# Altium footprint library Conn.Harting.PcbLib: 12 footprints
Each footprint in its own frame and in the unit in brackets; x right, y up, seen from the top. Pads: shape width x height; smd on the part's side, far side on the other; paste and mask are expansions set on the pad; w line width, h text height; cw(c..) or ccw(c..) is an arc to the next point about the centre after c.
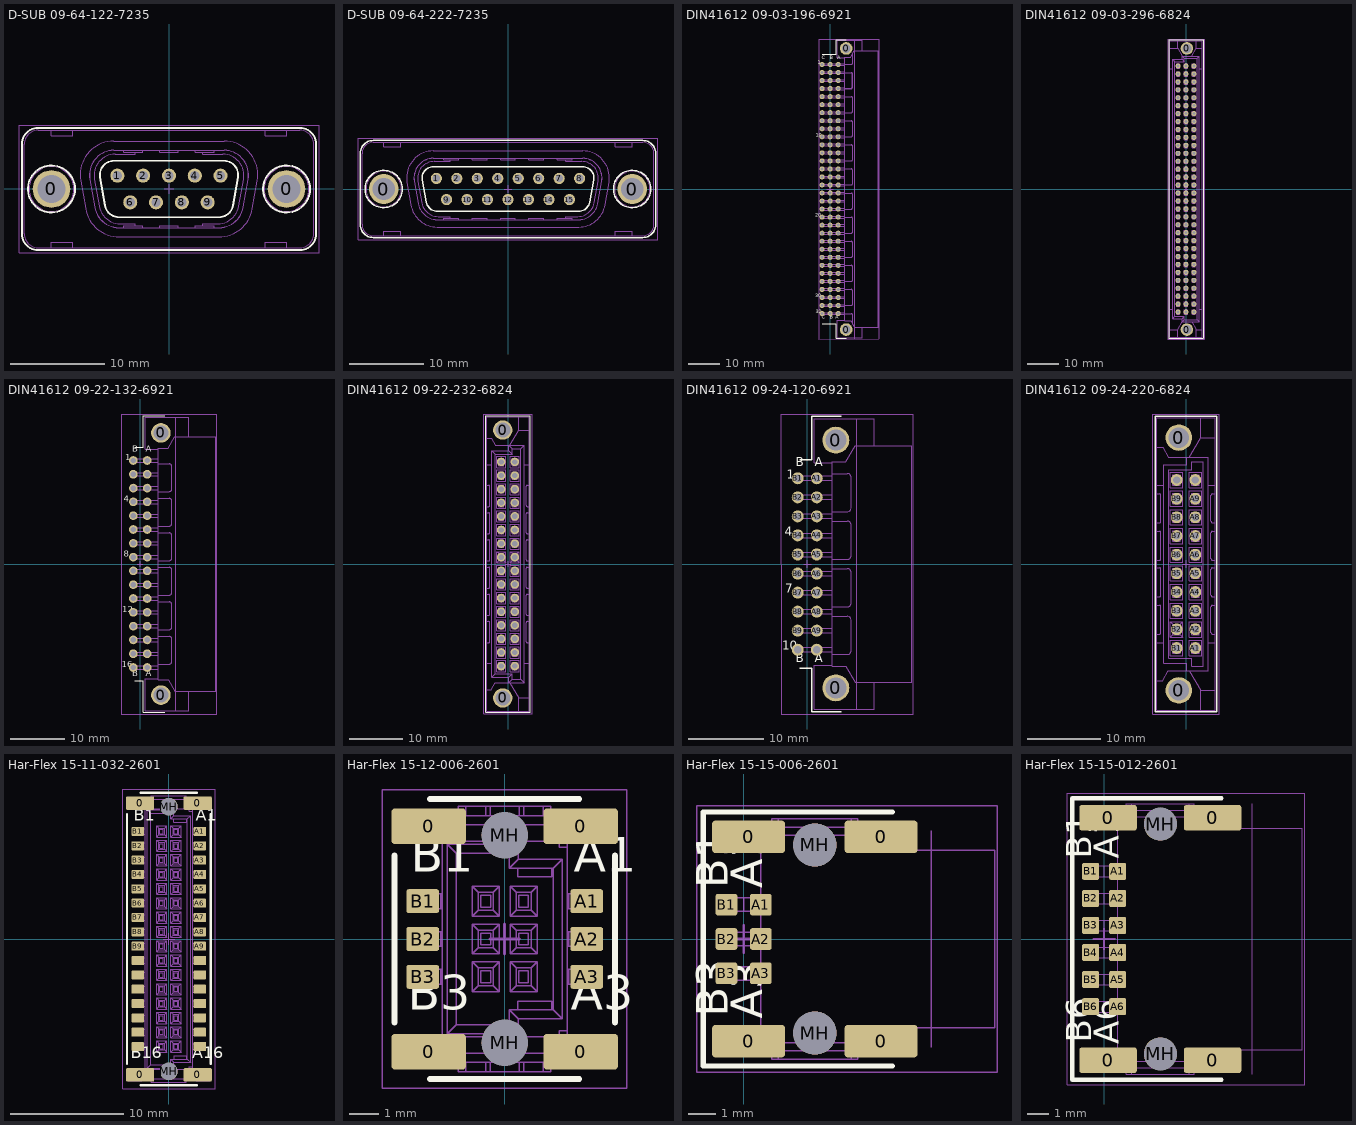
[diagram p0: the footprints below, top view; thin cyan lines are the x and y axes]

## D-SUB 09-64-122-7235 [mm] "Harting D-SUB Connector, 9-Lead,  5.6mm Standoff, 10.3mm PC Tail"
height 17.2
pads (11):
  round 4 hole 3: 0(-12.5,0) 0(12.5,0)
  round 1.5 hole 1: 1(-5.49,1.42) 2(-2.75,1.42) 3(0,1.42) 4(2.74,1.42) 5(5.48,1.42) 6(-4.12,-1.42) 7(-1.38,-1.42) 8(1.37,-1.42) 9(4.11,-1.42)
Top Overlay:
  circle w0.2: c-12.5,0 r2.502
  circle w0.2: c12.5,0 r2.502
  lines w0.2: -15.65,-4.75 ccw(c-13.9,-4.75) -13.9,-6.5 13.9,-6.5 ccw(c13.9,-4.75) 15.65,-4.75 15.65,4.75 ccw(c13.9,4.75) 13.9,6.5 -13.9,6.5 ccw(c-13.9,4.75) -15.65,4.75 -15.65,-4.75 ; -7.327,1.24 cw(c-5.85,1.5) -5.85,3 5.85,3 cw(c5.85,1.5) 7.327,1.24 6.798,-1.76 cw(c5.321,-1.5) 5.321,-3 -5.321,-3 cw(c-5.321,-1.5) -6.798,-1.76 -7.327,1.24
Bottom Overlay:
  region: -6.44,1.42 -7.306,0.92 -7.306,1.92
Mechanical 1:
  circle w0.05: c4.11,-1.42 r0.5
  circle w0.05: c2.74,1.42 r0.5
  circle w0.05: c0,1.42 r0.5
  circle w0.05: c-2.74,1.42 r0.5
  circle w0.05: c-4.11,-1.42 r0.5
  circle w0.05: c1.37,-1.42 r0.5
  circle w0.05: c-1.37,-1.42 r0.5
  circle w0.05: c5.49,1.42 r0.5
  circle w0.05: c-5.49,1.42 r0.5
  circle w0.05: c12.5,0 r2.375
  circle w0.05: c-12.5,0 r2.375
  circle w0.05: c-12.5,0 r1.7
  circle w0.05: c12.5,0 r1.7
  circle w0.05: c12.5,0 r1.08
  circle w0.05: c-12.5,0 r1.08
  lines w0.05: -13.469,-0.404 -13.066,0 -13.469,0.404 ; -12.904,-0.969 -12.5,-0.566 -12.096,-0.969 ; -12.904,0.969 -12.5,0.566 -12.096,0.969 ; -12.505,-6.24 -10.21,-6.24 ; -12.505,6.24 -10.21,6.24 ; -11.531,-0.404 -11.934,0 -11.531,0.404 ; -4.8,-4.1 -4.8,-3.892 -2.8,-3.892 -2.8,-4.1 ; -4.8,4.1 -4.8,3.892 -2.8,3.892 -2.8,4.1 ; -3.565,-3.892 -3.565,-3.697 -5.181,-3.697 cw(c-5.181,-1.44) -7.401,-1.851 -7.934,1.029 cw(c-5.715,1.44) -5.715,3.697 -3.565,3.697 -3.565,3.892 ; -1,-4.1 -1,-3.892 1,-3.892 1,-4.1 ; -1,4.1 -1,3.892 1,3.892 1,4.1 ; 2.8,-4.1 2.8,-3.892 4.8,-3.892 4.8,-4.1 ; 2.8,4.1 2.8,3.892 4.8,3.892 4.8,4.1 ; 3.565,-3.892 3.565,-3.697 5.181,-3.697 ccw(c5.181,-1.44) 7.401,-1.851 7.934,1.029 ccw(c5.715,1.44) 5.715,3.697 3.565,3.697 3.565,3.892 ; 10.21,-6.24 12.505,-6.24 ; 10.21,6.24 12.505,6.24 ; 11.531,-0.404 11.934,0 11.531,0.404 ; 12.096,-0.969 12.5,-0.566 12.904,-0.969 ; 12.096,0.969 12.5,0.566 12.904,0.969 ; 13.469,-0.404 13.066,0 13.469,0.404 ; -15.4,-4.75 ccw(c-13.9,-4.75) -13.9,-6.25 -12.505,-6.25 -12.505,-5.685 -10.21,-5.685 -10.21,-6.25 10.21,-6.25 10.21,-5.685 12.505,-5.685 12.505,-6.25 13.9,-6.25 ccw(c13.9,-4.75) 15.4,-4.75 15.4,4.75 ccw(c13.9,4.75) 13.9,6.25 12.505,6.25 12.505,5.685 10.21,5.685 10.21,6.25 -10.21,6.25 -10.21,5.685 -12.505,5.685 -12.505,6.25 -13.9,6.25 ccw(c-13.9,4.75) -15.4,4.75 -15.4,-4.75 ; -9.395,0.875 cw(c-5.85,1.5) -5.85,5.1 5.85,5.1 cw(c5.85,1.5) 9.395,0.875 8.866,-2.125 cw(c5.321,-1.5) 5.321,-5.1 -5.321,-5.1 cw(c-5.321,-1.5) -8.866,-2.125 -9.395,0.875 ; -8.421,1.047 cw(c-5.85,1.5) -5.85,4.11 5.85,4.11 cw(c5.85,1.5) 8.421,1.047 7.892,-1.953 cw(c5.321,-1.5) 5.321,-4.11 -5.321,-4.11 cw(c-5.321,-1.5) -7.892,-1.953 -8.421,1.047 ; -8.411,1.049 cw(c-5.85,1.5) -5.85,4.1 5.85,4.1 cw(c5.85,1.5) 8.411,1.049 7.882,-1.951 cw(c5.321,-1.5) 5.321,-4.1 -5.321,-4.1 cw(c-5.321,-1.5) -7.882,-1.951 -8.411,1.049
Mechanical 15:
  lines w0.05: -15.95,-6.8 -15.95,6.8 15.95,6.8 15.95,-6.8 -15.95,-6.8
  lines w0.1: -0.5,0 0.5,0 ; 0,-0.5 0,0.5
3D body "D-SUB 173109-0353.STEP": height 12.5, standoff -4.7, extent -15.4,-6.25 15.4,6.25

## D-SUB 09-64-222-7235 [mm] "Harting D-SUB Connector, 15-Lead,  5.6mm Standoff, 10.3mm PC Tail"
height 17.2
pads (17):
  round 4 hole 3: 0(-16.65,0) 0(16.65,0)
  round 1.5 hole 1: 1(-9.6,1.42) 2(-6.86,1.42) 3(-4.11,1.42) 4(-1.37,1.42) 5(1.37,1.42) 6(4.11,1.42) 7(6.86,1.42) 8(9.6,1.42) 9(-8.23,-1.42) 10(-5.49,-1.42) 11(-2.74,-1.42) 12(0,-1.42) 13(2.74,-1.42) 14(5.49,-1.42) 15(8.23,-1.42)
Top Overlay:
  circle w0.2: c16.65,0 r2.502
  circle w0.2: c-16.65,0 r2.502
  lines w0.2: -19.8,-4.75 ccw(c-18.05,-4.75) -18.05,-6.5 18.05,-6.5 ccw(c18.05,-4.75) 19.8,-4.75 19.8,4.75 ccw(c18.05,4.75) 18.05,6.5 -18.05,6.5 ccw(c-18.05,4.75) -19.8,4.75 -19.8,-4.75 ; -11.477,1.24 cw(c-10,1.5) -10,3 10,3 cw(c10,1.5) 11.477,1.24 10.948,-1.76 cw(c9.471,-1.5) 9.471,-3 -9.471,-3 cw(c-9.471,-1.5) -10.948,-1.76 -11.477,1.24
Bottom Overlay:
  region: -10.55,1.42 -11.416,0.92 -11.416,1.92
Mechanical 1:
  circle w0.05: c-16.65,0 r1.05
  circle w0.05: c16.65,0 r1.05
  circle w0.05: c16.65,0 r1.7
  circle w0.05: c-16.65,0 r1.7
  circle w0.05: c16.65,0 r2.375
  circle w0.05: c-16.65,0 r2.375
  circle w0.05: c-9.6,1.42 r0.5
  circle w0.05: c9.6,1.42 r0.5
  circle w0.05: c1.37,1.42 r0.5
  circle w0.05: c0,-1.42 r0.5
  circle w0.05: c-6.86,1.42 r0.5
  circle w0.05: c2.74,-1.42 r0.5
  circle w0.05: c-2.74,-1.42 r0.5
  circle w0.05: c4.11,1.42 r0.5
  circle w0.05: c-5.49,-1.42 r0.5
  circle w0.05: c-4.11,1.42 r0.5
  circle w0.05: c8.23,-1.42 r0.5
  circle w0.05: c-1.37,1.42 r0.5
  circle w0.05: c6.86,1.42 r0.5
  circle w0.05: c5.49,-1.42 r0.5
  circle w0.05: c-8.23,-1.42 r0.5
  lines w0.05: -17.619,-0.404 -17.216,0 -17.619,0.404 ; -17.054,-0.969 -16.65,-0.566 -16.246,-0.969 ; -17.054,0.969 -16.65,0.566 -16.246,0.969 ; -16.655,-6.24 -14.36,-6.24 ; -16.655,6.24 -14.36,6.24 ; -15.681,-0.404 -16.084,0 -15.681,0.404 ; -8.6,-4.1 -8.6,-3.892 -6.6,-3.892 -6.6,-4.1 ; -8.6,4.1 -8.6,3.892 -6.6,3.892 -6.6,4.1 ; -7.715,-3.892 -7.715,-3.697 -9.331,-3.697 cw(c-9.331,-1.44) -11.551,-1.851 -12.084,1.029 cw(c-9.865,1.44) -9.865,3.697 -7.715,3.697 -7.715,3.892 ; -4.8,-4.1 -4.8,-3.892 -2.8,-3.892 -2.8,-4.1 ; -4.8,4.1 -4.8,3.892 -2.8,3.892 -2.8,4.1 ; -1,-4.1 -1,-3.892 1,-3.892 1,-4.1 ; -1,4.1 -1,3.892 1,3.892 1,4.1 ; 2.8,-4.1 2.8,-3.892 4.8,-3.892 4.8,-4.1 ; 2.8,4.1 2.8,3.892 4.8,3.892 4.8,4.1 ; 6.6,-4.1 6.6,-3.892 8.6,-3.892 8.6,-4.1 ; 6.6,4.1 6.6,3.892 8.6,3.892 8.6,4.1 ; 7.715,-3.892 7.715,-3.697 9.331,-3.697 ccw(c9.331,-1.44) 11.551,-1.851 12.084,1.029 ccw(c9.865,1.44) 9.865,3.697 7.715,3.697 7.715,3.892 ; 14.36,-6.24 16.655,-6.24 ; 14.36,6.24 16.655,6.24 ; 15.681,-0.404 16.084,0 15.681,0.404 ; 16.246,-0.969 16.65,-0.566 17.054,-0.969 ; 16.246,0.969 16.65,0.566 17.054,0.969 ; 17.619,-0.404 17.216,0 17.619,0.404 ; -19.55,-4.75 ccw(c-18.05,-4.75) -18.05,-6.25 -16.655,-6.25 -16.655,-5.685 -14.36,-5.685 -14.36,-6.25 14.36,-6.25 14.36,-5.685 16.655,-5.685 16.655,-6.25 18.05,-6.25 ccw(c18.05,-4.75) 19.55,-4.75 19.55,4.75 ccw(c18.05,4.75) 18.05,6.25 16.655,6.25 16.655,5.685 14.36,5.685 14.36,6.25 -14.36,6.25 -14.36,5.685 -16.655,5.685 -16.655,6.25 -18.05,6.25 ccw(c-18.05,4.75) -19.55,4.75 -19.55,-4.75 ; -13.545,0.875 cw(c-10,1.5) -10,5.1 10,5.1 cw(c10,1.5) 13.545,0.875 13.016,-2.125 cw(c9.471,-1.5) 9.471,-5.1 -9.471,-5.1 cw(c-9.471,-1.5) -13.016,-2.125 -13.545,0.875 ; -12.571,1.047 cw(c-10,1.5) -10,4.11 10,4.11 cw(c10,1.5) 12.571,1.047 12.042,-1.953 cw(c9.471,-1.5) 9.471,-4.11 -9.471,-4.11 cw(c-9.471,-1.5) -12.042,-1.953 -12.571,1.047 ; -12.561,1.049 cw(c-10,1.5) -10,4.1 10,4.1 cw(c10,1.5) 12.561,1.049 12.032,-1.951 cw(c9.471,-1.5) 9.471,-4.1 -9.471,-4.1 cw(c-9.471,-1.5) -12.032,-1.951 -12.561,1.049
Mechanical 15:
  lines w0.05: -20.1,-6.8 20.1,-6.8 20.1,6.8 -20.1,6.8 -20.1,-6.8
  lines w0.1: -0.5,0 0.5,0 ; 0,-0.5 0,0.5
3D body "D-SUB 173109-0426.STEP": height 12.5, standoff -4.7, extent -19.55,-6.25 19.55,6.25

## DIN41612 09-03-196-6921 [mm] "DIN41612 Header, 96 Leads, 2.54mm Pitch"
height 9.35
pads (98):
  round 4 hole 2.8: 0(5.08,-44.45) 0(5.08,44.45)
  round 1.6 hole 1: A1(2.54,39.37) A2(2.54,36.83) A3(2.54,34.29) A4(2.54,31.75) A5(2.54,29.21) A6(2.54,26.67) A7(2.54,24.13) A8(2.54,21.59) A9(2.54,19.05) A10(2.54,16.51) A11(2.54,13.97) A12(2.54,11.43) A13(2.54,8.89) A14(2.54,6.35) A15(2.54,3.81) A16(2.54,1.27) A17(2.54,-1.27) A18(2.54,-3.81) A19(2.54,-6.35) A20(2.54,-8.89) A21(2.54,-11.43) A22(2.54,-13.97) A23(2.54,-16.51) A24(2.54,-19.05) A25(2.54,-21.59) A26(2.54,-24.13) A27(2.54,-26.67) A28(2.54,-29.21) A29(2.54,-31.75) A30(2.54,-34.29) A31(2.54,-36.83) A32(2.54,-39.37) B1(0,39.37) B2(0,36.83) B3(0,34.29) B4(0,31.75) B5(0,29.21) B6(0,26.67) B7(0,24.13) B8(0,21.59) B9(0,19.05) B10(0,16.51) B11(0,13.97) B12(0,11.43) B13(0,8.89) B14(0,6.35) B15(0,3.81) B16(0,1.27) B17(0,-1.27) B18(0,-3.81) B19(0,-6.35) B20(0,-8.89) B21(0,-11.43) B22(0,-13.97) B23(0,-16.51) B24(0,-19.05) B25(0,-21.59) B26(0,-24.13) B27(0,-26.67) B28(0,-29.21) B29(0,-31.75) B30(0,-34.29) B31(0,-36.83) B32(0,-39.37) C1(-2.54,39.37) C2(-2.54,36.83) C3(-2.54,34.29) C4(-2.54,31.75) C5(-2.54,29.21) C6(-2.54,26.67) C7(-2.54,24.13) C8(-2.54,21.59) C9(-2.54,19.05) C10(-2.54,16.51) C11(-2.54,13.97) C12(-2.54,11.43) C13(-2.54,8.89) C14(-2.54,6.35) C15(-2.54,3.81) C16(-2.54,1.27) C17(-2.54,-1.27) C18(-2.54,-3.81) C19(-2.54,-6.35) C20(-2.54,-8.89) C21(-2.54,-11.43) C22(-2.54,-13.97) C23(-2.54,-16.51) C24(-2.54,-19.05) C25(-2.54,-21.59) C26(-2.54,-24.13) C27(-2.54,-26.67) C28(-2.54,-29.21) C29(-2.54,-31.75) C30(-2.54,-34.29) C31(-2.54,-36.83) C32(-2.54,-39.37)
Top Overlay:
  lines w0.2: -2.54,-42.545 1.975,-42.545 1.975,-47.2 5.08,-47.2 ; -2.54,42.545 1.975,42.545 1.975,47.2 5.08,47.2
  text "C" at -2.697,-41.522 h2
  text "A" at 2.774,-41.512 h2
  text "B" at -0.191,-41.512 h2
  text "C" at -2.697,40.55 h2
  text "B" at -0.191,40.54 h2
  text "A" at 2.306,40.54 h2
  text "1" at -3.976,38.934 h2
  text "10" at -4.503,16.074 h2
  text "20" at -4.656,-9.326 h2
  text "30" at -4.662,-34.726 h2
  text "32" at -4.617,-39.806 h2
Bottom Overlay:
  text "C" at -2.383,-41.522 h2
  text "A" at 2.306,-41.512 h2
  text "B" at 0.191,-41.512 h2
  text "A" at 2.774,40.54 h2
  text "B" at 0.191,40.54 h2
  text "C" at -2.383,40.55 h2
  text "1" at -3.811,38.934 h2
  text "10" at -3.811,16.074 h2
  text "20" at -3.811,-9.326 h2
  text "30" at -3.81,-34.726 h2
  text "32" at -3.81,-39.806 h2
Mechanical 1:
  drawing of 181 lines, arcs and shapes, not listed
Mechanical 5:
  lines w0.1: 7.84,-47.425 7.84,47.425
Mechanical 15:
  lines w0.05: -3.625,-47.425 15.325,-47.425 15.325,47.425 -3.625,47.425 -3.625,-47.425
  lines w0.1: -1,0 1,0 ; 0,-1 0,1
3D body "Harting_DIN41612_09-03-196-6921.STEP": height 9.35, standoff -3, extent -2.84,-47 15.18,47

## DIN41612 09-03-296-6824 [mm] "DIN41612 Socket, 96 Leads, 2.54mm Pitch"
pads (98):
  round 4 hole 2.8: 0(0.3,-45) 0(0.3,45)
  round 1.6 hole 1: A1(2.54,-39.37) A2(2.54,-36.83) A3(2.54,-34.29) A4(2.54,-31.75) A5(2.54,-29.21) A6(2.54,-26.67) A7(2.54,-24.13) A8(2.54,-21.59) A9(2.54,-19.05) A10(2.54,-16.51) A11(2.54,-13.97) A12(2.54,-11.43) A13(2.54,-8.89) A14(2.54,-6.35) A15(2.54,-3.81) A16(2.54,-1.27) A17(2.54,1.27) A18(2.54,3.81) A19(2.54,6.35) A20(2.54,8.89) A21(2.54,11.43) A22(2.54,13.97) A23(2.54,16.51) A24(2.54,19.05) A25(2.54,21.59) A26(2.54,24.13) A27(2.54,26.67) A28(2.54,29.21) A29(2.54,31.75) A30(2.54,34.29) A31(2.54,36.83) A32(2.54,39.37) B1(0,-39.37) B2(0,-36.83) B3(0,-34.29) B4(0,-31.75) B5(0,-29.21) B6(0,-26.67) B7(0,-24.13) B8(0,-21.59) B9(0,-19.05) B10(0,-16.51) B11(0,-13.97) B12(0,-11.43) B13(0,-8.89) B14(0,-6.35) B15(0,-3.81) B16(0,-1.27) B17(0,1.27) B18(0,3.81) B19(0,6.35) B20(0,8.89) B21(0,11.43) B22(0,13.97) B23(0,16.51) B24(0,19.05) B25(0,21.59) B26(0,24.13) B27(0,26.67) B28(0,29.21) B29(0,31.75) B30(0,34.29) B31(0,36.83) B32(0,39.37) C1(-2.54,-39.37) C2(-2.54,-36.83) C3(-2.54,-34.29) C4(-2.54,-31.75) C5(-2.54,-29.21) C6(-2.54,-26.67) C7(-2.54,-24.13) C8(-2.54,-21.59) C9(-2.54,-19.05) C10(-2.54,-16.51) C11(-2.54,-13.97) C12(-2.54,-11.43) C13(-2.54,-8.89) C14(-2.54,-6.35) C15(-2.54,-3.81) C16(-2.54,-1.27) C17(-2.54,1.27) C18(-2.54,3.81) C19(-2.54,6.35) C20(-2.54,8.89) C21(-2.54,11.43) C22(-2.54,13.97) C23(-2.54,16.51) C24(-2.54,19.05) C25(-2.54,21.59) C26(-2.54,24.13) C27(-2.54,26.67) C28(-2.54,29.21) C29(-2.54,31.75) C30(-2.54,34.29) C31(-2.54,36.83) C32(-2.54,39.37)
Top Overlay:
  lines w0.2: -5.5,-47.7 5.5,-47.7 5.5,47.7 -5.5,47.7 -5.5,-47.7
Mechanical 1:
  drawing of 430 lines, arcs and shapes, not listed
Mechanical 15:
  lines w0.05: -5.8,-48 5.8,-48 5.8,48 -5.8,48 -5.8,-48
  lines w0.1: -0.5,0 0.5,0 ; 0,-0.5 0,0.5
3D body "Harting_DIN41612_09-03-296-6824.STEP": height 11.6, standoff -2.9, extent -5.25,-47.45 5.25,47.45

## DIN41612 09-22-132-6921 [mm] "DIN41612 Header, 32-Pin, 2.54mm Pitch"
pads (34):
  round 3.6 hole 2.8: 0(3.81,-24.13) 0(3.81,24.13)
  round 1.6 hole 1: A1(1.27,19.05) A2(1.27,16.51) A3(1.27,13.97) A4(1.27,11.43) A5(1.27,8.89) A6(1.27,6.35) A7(1.27,3.81) A8(1.27,1.27) A9(1.27,-1.27) A10(1.27,-3.81) A11(1.27,-6.35) A12(1.27,-8.89) A13(1.27,-11.43) A14(1.27,-13.97) A15(1.27,-16.51) A16(1.27,-19.05) B1(-1.27,19.05) B2(-1.27,16.51) B3(-1.27,13.97) B4(-1.27,11.43) B5(-1.27,8.89) B6(-1.27,6.35) B7(-1.27,3.81) B8(-1.27,1.27) B9(-1.27,-1.27) B10(-1.27,-3.81) B11(-1.27,-6.35) B12(-1.27,-8.89) B13(-1.27,-11.43) B14(-1.27,-13.97) B15(-1.27,-16.51) B16(-1.27,-19.05)
Top Overlay:
  lines w0.2: -1,-21.5 0.6,-21.5 0.6,-27.3 4.5,-27.3 ; -1,21.5 0.6,21.5 0.6,27.3 4.5,27.3
  text "B" at -1.507,-21.092 h2
  text "A" at 0.979,-21.092 h2
  text "B" at -1.507,20.22 h2
  text "A" at 0.979,20.22 h2
  text "1" at -2.716,18.614 h2
  text "4" at -3.01,10.994 h2
  text "8" at -2.994,0.834 h2
  text "12" at -3.306,-9.331 h2
  text "16" at -3.36,-19.486 h2
Bottom Overlay:
  text "B" at -1.033,20.22 h2
  text "A" at 1.561,20.22 h2
  text "1" at -2.501,18.614 h2
  text "4" at -2.5,10.994 h2
  text "8" at -2.501,0.834 h2
  text "12" at -2.501,-9.331 h2
  text "16" at -2.401,-19.486 h2
Mechanical 1:
  circle w0.05: c3.81,-24.13 r1.25
  circle w0.05: c3.81,24.13 r1.25
  lines w0.05: -0.67,-19.35 -0.67,-18.75 ; -0.67,-16.81 -0.67,-16.21 ; -0.67,-14.27 -0.67,-13.67 ; -0.67,-11.73 -0.67,-11.13 ; -0.67,-9.19 -0.67,-8.59 ; -0.67,-6.65 -0.67,-6.05 ; -0.67,-4.11 -0.67,-3.51 ; -0.67,-1.57 -0.67,-0.97 ; -0.67,0.97 -0.67,1.57 ; -0.67,3.51 -0.67,4.11 ; -0.67,6.05 -0.67,6.65 ; -0.67,8.59 -0.67,9.19 ; -0.67,11.13 -0.67,11.73 ; -0.67,13.67 -0.67,14.27 ; -0.67,16.21 -0.67,16.81 ; -0.67,18.75 -0.67,19.35 ; 3.31,-21.13 0.91,-21.13 0.91,-27 8.96,-27 8.96,-23.45 ; 3.31,-19.35 -1.57,-19.35 -1.57,-18.75 3.31,-18.75 ; 3.31,-18.415 5.35,-18.415 ccw(c5.35,-17.915) 5.85,-17.915 5.85,-13.835 ccw(c5.35,-13.835) 5.35,-13.335 3.31,-13.335 ; 3.31,-16.81 -1.57,-16.81 -1.57,-16.21 3.31,-16.21 ; 3.31,-14.27 -1.57,-14.27 -1.57,-13.67 3.31,-13.67 ; 3.31,-12.065 5.35,-12.065 ccw(c5.35,-11.565) 5.85,-11.565 5.85,-7.485 ccw(c5.35,-7.485) 5.35,-6.985 3.31,-6.985 ; 3.31,-11.73 -1.57,-11.73 -1.57,-11.13 3.31,-11.13 ; 3.31,-9.19 -1.57,-9.19 -1.57,-8.59 3.31,-8.59 ; 3.31,-6.65 -1.57,-6.65 -1.57,-6.05 3.31,-6.05 ; 3.31,-5.715 5.35,-5.715 ccw(c5.35,-5.215) 5.85,-5.215 5.85,-1.135 ccw(c5.35,-1.135) 5.35,-0.635 3.31,-0.635 ; 3.31,-4.11 -1.57,-4.11 -1.57,-3.51 3.31,-3.51 ; 3.31,-1.57 -1.57,-1.57 -1.57,-0.97 3.31,-0.97 ; 3.31,0.635 5.35,0.635 ccw(c5.35,1.135) 5.85,1.135 5.85,5.215 ccw(c5.35,5.215) 5.35,5.715 3.31,5.715 ; 3.31,0.97 -1.57,0.97 -1.57,1.57 3.31,1.57 ; 3.31,3.51 -1.57,3.51 -1.57,4.11 3.31,4.11 ; 3.31,6.05 -1.57,6.05 -1.57,6.65 3.31,6.65 ; 3.31,6.985 5.35,6.985 ccw(c5.35,7.485) 5.85,7.485 5.85,11.565 ccw(c5.35,11.565) 5.35,12.065 3.31,12.065 ; 3.31,8.59 -1.57,8.59 -1.57,9.19 3.31,9.19 ; 3.31,11.13 -1.57,11.13 -1.57,11.73 3.31,11.73 ; 3.31,13.335 5.35,13.335 ccw(c5.35,13.835) 5.85,13.835 5.85,17.915 ccw(c5.35,17.915) 5.35,18.415 3.31,18.415 ; 3.31,13.67 -1.57,13.67 -1.57,14.27 3.31,14.27 ; 3.31,16.21 -1.57,16.21 -1.57,16.81 3.31,16.81 ; 3.31,18.75 -1.57,18.75 -1.57,19.35 3.31,19.35 ; 3.31,21.13 0.91,21.13 0.91,27 8.96,27 8.96,23.45 ; 3.31,-21.28 3.31,21.28 5.12,21.28 6.37,23.45 13.91,23.45 13.91,-23.45 6.37,-23.45 5.12,-21.28 3.31,-21.28
Mechanical 5:
  lines w0.1: 6.57,-27 6.57,27
Mechanical 15:
  lines w0.05: -3.5,-27.6 14.1,-27.6 14.1,27.6 -3.5,27.6 -3.5,-27.6
  lines w0.1: -0.5,0 0.5,0 ; 0,-0.5 0,0.5
3D body "Harting_DIN41612_09-22-132-6921.STEP": height 6.83, standoff -3, extent -1.57,-27 13.91,27

## DIN41612 09-22-232-6824 [mm] "Harting DIN41612 Socket, 32-Lead with GND Pads, 2.54mm Pitch"
height 11.6
pads (34):
  round 3.6 hole 2.8: 0(-0.97,-25) 0(-0.97,25)
  round 1.6 hole 1: A1(1.27,-19.05) A2(1.27,-16.51) A3(1.27,-13.97) A4(1.27,-11.43) A5(1.27,-8.89) A6(1.27,-6.35) A7(1.27,-3.81) A8(1.27,-1.27) A9(1.27,1.27) A10(1.27,3.81) A11(1.27,6.35) A12(1.27,8.89) A13(1.27,11.43) A14(1.27,13.97) A15(1.27,16.51) A16(1.27,19.05) B1(-1.27,-19.05) B2(-1.27,-16.51) B3(-1.27,-13.97) B4(-1.27,-11.43) B5(-1.27,-8.89) B6(-1.27,-6.35) B7(-1.27,-3.81) B8(-1.27,-1.27) B9(-1.27,1.27) B10(-1.27,3.81) B11(-1.27,6.35) B12(-1.27,8.89) B13(-1.27,11.43) B14(-1.27,13.97) B15(-1.27,16.51) B16(-1.27,19.05)
Top Overlay:
  lines w0.2: -4.2,-27.7 4.2,-27.7 4.2,27.7 -4.2,27.7 -4.2,-27.7
Bottom Overlay:
  text "13" at 3.325,10.994 h2
  text "10" at 3.398,3.374 h2
  text "7" at 2.981,-4.246 h2
  text "4" at 3.05,-11.866 h2
  text "16" at 3.4,18.614 h2
  text "1" at 2.756,-19.486 h2
  text "A" at 1.561,20.32 h2
  text "B" at -1.033,20.32 h2
  text "B" at -1.033,-21.192 h2
  text "A" at 1.561,-21.192 h2
Mechanical 1:
  drawing of 368 lines, arcs and shapes, not listed
Mechanical 15:
  lines w0.05: -4.5,-28 4.5,-28 4.5,28 -4.5,28 -4.5,-28
  lines w0.1: -0.5,0 0.5,0 ; 0,-0.5 0,0.5
3D body "Harting_DIN41612_09-22-232-6824.STEP": height 11.6, standoff -2.9, extent -4,-27.45 4,27.45

## DIN41612 09-24-120-6921 [mm] "DIN41612 Header, 20-Pin, 2.54mm Pitch"
pads (22):
  round 3.6 hole 2.8: 0(3.81,-16.51) 0(3.81,16.51)
  round 1.6 hole 1: A1(1.27,11.43) A2(1.27,8.89) A3(1.27,6.35) A4(1.27,3.81) A5(1.27,1.27) A6(1.27,-1.27) A7(1.27,-3.81) A8(1.27,-6.35) A9(1.27,-8.89) A10(1.27,-11.43) B1(-1.27,11.43) B2(-1.27,8.89) B3(-1.27,6.35) B4(-1.27,3.81) B5(-1.27,1.27) B6(-1.27,-1.27) B7(-1.27,-3.81) B8(-1.27,-6.35) B9(-1.27,-8.89) B10(-1.27,-11.43)
Top Overlay:
  lines w0.2: -1,-13.9 0.6,-13.9 0.6,-19.7 4.5,-19.7 ; -1,13.9 0.6,13.9 0.6,19.7 4.5,19.7
  text "10" at -3.358,-11.866 h2
  text "7" at -2.941,-4.246 h2
  text "4" at -3.01,3.374 h2
  text "1" at -2.716,10.994 h2
  text "A" at 0.979,12.62 h2
  text "B" at -1.507,12.62 h2
  text "A" at 0.979,-13.492 h2
  text "B" at -1.507,-13.492 h2
Bottom Overlay:
  text "10" at -2.501,-11.866 h2
  text "7" at -2.501,-4.246 h2
  text "4" at -2.5,3.374 h2
  text "1" at -2.501,10.994 h2
  text "A" at 1.561,12.62 h2
  text "B" at -1.033,12.62 h2
Mechanical 1:
  circle w0.05: c3.81,16.51 r1.25
  circle w0.05: c3.81,-16.51 r1.25
  lines w0.05: -0.67,-11.71 -0.67,-11.11 ; -0.67,-9.17 -0.67,-8.57 ; -0.67,-6.63 -0.67,-6.03 ; -0.67,-4.09 -0.67,-3.49 ; -0.67,-1.55 -0.67,-0.95 ; -0.67,0.99 -0.67,1.59 ; -0.67,3.53 -0.67,4.13 ; -0.67,6.07 -0.67,6.67 ; -0.67,8.61 -0.67,9.21 ; -0.67,11.15 -0.67,11.75 ; 3.31,-13.48 0.91,-13.48 0.91,-19.35 8.96,-19.35 8.96,-15.8 ; 3.31,-12.065 5.35,-12.065 ccw(c5.35,-11.565) 5.85,-11.565 5.85,-7.485 ccw(c5.35,-7.485) 5.35,-6.985 3.31,-6.985 ; 3.31,-11.71 -1.57,-11.71 -1.57,-11.11 3.31,-11.11 ; 3.31,-9.17 -1.57,-9.17 -1.57,-8.57 3.31,-8.57 ; 3.31,-6.63 -1.57,-6.63 -1.57,-6.03 3.31,-6.03 ; 3.31,-5.715 5.35,-5.715 ccw(c5.35,-5.215) 5.85,-5.215 5.85,-1.135 ccw(c5.35,-1.135) 5.35,-0.635 3.31,-0.635 ; 3.31,-4.09 -1.57,-4.09 -1.57,-3.49 3.31,-3.49 ; 3.31,-1.55 -1.57,-1.55 -1.57,-0.95 3.31,-0.95 ; 3.31,0.635 5.35,0.635 ccw(c5.35,1.135) 5.85,1.135 5.85,5.215 ccw(c5.35,5.215) 5.35,5.715 3.31,5.715 ; 3.31,0.99 -1.57,0.99 -1.57,1.59 3.31,1.59 ; 3.31,3.53 -1.57,3.53 -1.57,4.13 3.31,4.13 ; 3.31,6.07 -1.57,6.07 -1.57,6.67 3.31,6.67 ; 3.31,6.985 5.35,6.985 ccw(c5.35,7.485) 5.85,7.485 5.85,11.565 ccw(c5.35,11.565) 5.35,12.065 3.31,12.065 ; 3.31,8.61 -1.57,8.61 -1.57,9.21 3.31,9.21 ; 3.31,11.15 -1.57,11.15 -1.57,11.75 3.31,11.75 ; 3.31,13.48 0.91,13.48 0.91,19.35 8.96,19.35 8.96,15.8 ; 3.31,-13.63 5.12,-13.63 6.37,-15.8 13.91,-15.8 13.91,15.8 6.37,15.8 5.12,13.63 3.31,13.63 3.31,-13.63
Mechanical 5:
  lines w0.1: 6.57,-19.35 6.57,19.35
Mechanical 15:
  lines w0.05: -3.5,-20 14.1,-20 14.1,20 -3.5,20 -3.5,-20
  lines w0.1: -0.5,0 0.5,0 ; 0,-0.5 0,0.5
3D body "Harting_DIN41612_09-24-120-6921.STEP": height 6.83, standoff -3, extent -1.57,-19.35 13.91,19.35

## DIN41612 09-24-220-6824 [mm] "Harting DIN41612 Socket, 20-Lead with Ground Pads, 2.54mm Pitch"
height 11.6
pads (22):
  round 3.6 hole 2.8: 0(-0.97,-17.19) 0(-0.97,17.19)
  round 1.6 hole 1: A1(1.27,-11.43) A2(1.27,-8.89) A3(1.27,-6.35) A4(1.27,-3.81) A5(1.27,-1.27) A6(1.27,1.27) A7(1.27,3.81) A8(1.27,6.35) A9(1.27,8.89) A10(1.27,11.43) B1(-1.27,-11.43) B2(-1.27,-8.89) B3(-1.27,-6.35) B4(-1.27,-3.81) B5(-1.27,-1.27) B6(-1.27,1.27) B7(-1.27,3.81) B8(-1.27,6.35) B9(-1.27,8.89) B10(-1.27,11.43)
Top Overlay:
  lines w0.2: -4.2,-20.1 4.2,-20.1 4.2,20.1 -4.2,20.1 -4.2,-20.1
Bottom Overlay:
  text "A" at 1.561,12.7 h2
  text "B" at -1.033,12.7 h2
  text "B" at -1.033,-13.572 h2
  text "A" at 1.561,-13.572 h2
  text "1" at 2.756,-11.866 h2
  text "4" at 3.05,-4.246 h2
  text "7" at 2.981,3.374 h2
  text "10" at 3.398,10.994 h2
Mechanical 1:
  drawing of 240 lines, arcs and shapes, not listed
Mechanical 15:
  lines w0.05: -4.5,-20.4 -4.5,20.4 4.5,20.4 4.5,-20.4 -4.5,-20.4
  lines w0.1: -0.5,0 0.5,0 ; 0,-0.5 0,0.5
3D body "Harting_DIN41612_09-24-220-6824.STEP": height 11.6, standoff -2.9, extent -4,-19.9 4,19.9

## Har-Flex 15-11-032-2601 [mm] "Har-Flex Header, 32 Leads, 1.27mm Pitch"
height 6.6
pads (38):
  rrect20% 2.5x1.2 smd: 0(-2.55,-12.035) 0(-2.55,12.035) 0(2.55,-12.035) 0(2.55,12.035)
  rrect20% 1.1x0.8 smd: A1(2.75,9.525) A2(2.75,8.255) A3(2.75,6.985) A4(2.75,5.715) A5(2.75,4.445) A6(2.75,3.175) A7(2.75,1.905) A8(2.75,0.635) A9(2.75,-0.635) A10(2.75,-1.905) A11(2.75,-3.175) A12(2.75,-4.445) A13(2.75,-5.715) A14(2.75,-6.985) A15(2.75,-8.255) A16(2.75,-9.525) B1(-2.75,9.525) B2(-2.75,8.255) B3(-2.75,6.985) B4(-2.75,5.715) B5(-2.75,4.445) B6(-2.75,3.175) B7(-2.75,1.905) B8(-2.75,0.635) B9(-2.75,-0.635) B10(-2.75,-1.905) B11(-2.75,-3.175) B12(-2.75,-4.445) B13(-2.75,-5.715) B14(-2.75,-6.985) B15(-2.75,-8.255) B16(-2.75,-9.525)
  round 1.55 hole 1.55 unplated: MH(0,-11.735) MH(0,11.735)
Top Overlay:
  lines w0.2: -3.7,-11.055 -3.7,11.055 ; -2.5,-12.955 2.5,-12.955 ; -2.5,12.955 2.5,12.955 ; 3.7,-11.055 3.7,11.055
  text "A16" at 2.093,-10.897 h1.75
  text "A1" at 2.375,10.125 h1.75
  text "B1" at -3.095,10.125 h1.75
  text "B16" at -3.376,-10.897 h1.75
Mechanical 1:
  drawing of 818 lines, arcs and shapes, not listed
Mechanical 15:
  lines w0.05: -4.1,-13.255 4.1,-13.255 4.1,13.255 -4.1,13.255 -4.1,-13.255
  lines w0.1: -0.5,0 0.5,0 ; 0,-0.5 0,0.5
3D body "1511032X601XXX_100210623MOD000D.stp": height 6.63, standoff -0.75, extent -3.7,-12.7 3.7,12.7

## Har-Flex 15-12-006-2601 [mm] "Har-Flex Header, 6 Leads, 1.27mm Pitch"
height 8.1
pads (12):
  rrect20% 2.5x1.2 smd: 0(-2.55,-3.78) 0(-2.55,3.78) 0(2.55,-3.78) 0(2.55,3.78)
  rrect20% 1.1x0.8 smd: A1(2.75,1.27) A2(2.75,0) A3(2.75,-1.27) B1(-2.75,1.27) B2(-2.75,0) B3(-2.75,-1.27)
  round 1.55 hole 1.55 unplated: MH(0,-3.48) MH(0,3.48)
Top Overlay:
  lines w0.2: -3.7,-2.8 -3.7,2.8 ; -2.5,-4.7 2.5,-4.7 ; -2.5,4.7 2.5,4.7 ; 3.7,-2.8 3.7,2.8
  text "A1" at 2.321,1.87 h2
  text "B1" at -3.144,1.87 h2
  text "A3" at 2.211,-2.752 h2
  text "B3" at -3.254,-2.752 h2
Mechanical 1:
  drawing of 218 lines, arcs and shapes, not listed
Mechanical 15:
  lines w0.05: -4.1,-5 4.1,-5 4.1,5 -4.1,5 -4.1,-5
  lines w0.1: -0.5,0 0.5,0 ; 0,-0.5 0,0.5
3D body "1512006X601XXX_100210820MOD000D.stp": height 8.13, standoff -0.75, extent -3.7,-4.445 3.7,4.445

## Har-Flex 15-15-006-2601 [mm] "Har-Flex Header, 6 Leads, 1.27mm Pitch"
height 4.25
pads (12):
  rrect20% 2.7x1.2 smd: 0(0.185,-3.78) 0(0.185,3.78) 0(5.085,-3.78) 0(5.085,3.78)
  rrect20% 0.8x0.8 smd: A1(0.635,1.27) A2(0.635,0) A3(0.635,-1.27) B1(-0.635,1.27) B2(-0.635,0) B3(-0.635,-1.27)
  round 1.6 hole 1.6 unplated: MH(2.635,-3.48) MH(2.635,3.48)
Top Overlay:
  lines w0.2: 5.5,-4.701 -1.5,-4.694 -1.5,4.7 5.5,4.7
  text "A3" at 1.071,-2.948 h2
  text "B3" at -0.199,-2.878 h2
  text "A1" at 1.071,1.87 h2
  text "B1" at -0.199,1.87 h2
Mechanical 1:
  lines w0.05: 0.635,-3.83 0.635,3.83 ; 0.635,-3.28 -0.965,-3.28 ccw(c-0.965,-3.38) -1.065,-3.38 -1.065,-4.18 ccw(c-0.965,-4.18) -0.965,-4.28 0.235,-4.28 ccw(c0.235,-4.18) 0.335,-4.18 0.335,-3.83 cw(c0.435,-3.83) 0.535,-3.83 ; 0.635,-1.52 0.414,-1.52 ; 0.635,-1.02 0.414,-1.02 ; 0.635,-0.25 0.414,-0.25 ; 0.635,0.25 0.414,0.25 ; 0.635,1.02 0.414,1.02 ; 0.635,1.52 0.414,1.52 ; 0.635,3.28 -0.965,3.28 cw(c-0.965,3.38) -1.065,3.38 -1.065,4.18 cw(c-0.965,4.18) -0.965,4.28 0.235,4.28 cw(c0.235,4.18) 0.335,4.18 0.335,3.83 ccw(c0.435,3.83) 0.535,3.83 ; 0.685,-4.13 0.685,-3.83 ; 0.685,3.83 0.685,4.13 ; 1.04,-4.13 1.04,-4.445 4.23,-4.445 4.23,-4.13 ; 1.04,4.13 1.04,4.445 4.23,4.445 4.23,4.13 ; 1.29,-4.445 1.29,-4.13 ; 1.29,4.13 1.29,4.445 ; 3.98,-4.445 3.98,-4.13 ; 3.98,4.13 3.98,4.445 ; 4.585,-4.13 4.585,-3.83 ; 4.585,3.83 4.585,4.13 ; 4.635,-3.83 4.635,-3.28 9.285,-3.28 9.285,3.28 4.635,3.28 4.635,3.83 ; 6.235,-3.28 cw(c6.235,-3.38) 6.335,-3.38 6.335,-4.18 cw(c6.235,-4.18) 6.235,-4.28 5.035,-4.28 cw(c5.035,-4.18) 4.935,-4.18 4.935,-3.83 ccw(c4.835,-3.83) 4.735,-3.83 ; 6.235,3.28 ccw(c6.235,3.38) 6.335,3.38 6.335,4.18 ccw(c6.235,4.18) 6.235,4.28 5.035,4.28 ccw(c5.035,4.18) 4.935,4.18 4.935,3.83 cw(c4.835,3.83) 4.735,3.83 ; -0.485,-1.52 -0.386,-1.52 ; -0.485,-1.52 -0.485,-1.02 ; -0.485,-1.52 -0.935,-1.52 -0.935,-1.02 -0.485,-1.02 ; -0.485,-1.02 -0.386,-1.02 ; -0.485,-0.25 -0.386,-0.25 ; -0.485,-0.25 -0.485,0.25 ; -0.485,-0.25 -0.935,-0.25 -0.935,0.25 -0.485,0.25 ; -0.485,0.25 -0.386,0.25 ; -0.485,1.02 -0.386,1.02 ; -0.485,1.02 -0.485,1.52 ; -0.485,1.02 -0.935,1.02 -0.935,1.52 -0.485,1.52 ; -0.485,1.52 -0.386,1.52 ; -0.386,-1.52 -0.386,-1.02 ; -0.386,-1.52 0.001,-1.52 ; -0.386,-1.02 0.001,-1.02 ; -0.386,-0.25 -0.386,0.25 ; -0.386,-0.25 0.001,-0.25 ; -0.386,0.25 0.001,0.25 ; -0.386,1.02 -0.386,1.52 ; -0.386,1.02 0.001,1.02 ; -0.386,1.52 0.001,1.52 ; 0.001,-1.52 0.414,-1.52 ; 0.001,-1.52 0.001,-1.02 ; 0.001,-1.02 0.414,-1.02 ; 0.001,-0.25 0.414,-0.25 ; 0.001,-0.25 0.001,0.25 ; 0.001,0.25 0.414,0.25 ; 0.001,1.02 0.414,1.02 ; 0.001,1.02 0.001,1.52 ; 0.001,1.52 0.414,1.52 ; 0.414,-1.52 0.414,-1.02 ; 0.414,-0.25 0.414,0.25 ; 0.414,1.02 0.414,1.52 ; 0.535,-3.83 4.735,-3.83 ; 0.535,-3.83 0.535,-4.13 4.735,-4.13 4.735,-3.83 ; 0.535,3.83 4.735,3.83 ; 0.535,3.83 0.535,4.13 4.735,4.13 4.735,3.83
Mechanical 5:
  lines w0.05: 6.936,-4 6.936,4
Mechanical 15:
  lines w0.05: -1.725,-4.925 -1.725,4.925 9.375,4.925 9.375,-4.925 -1.725,-4.925
  lines w0.1: -0.5,0 0.5,0 ; 0,-0.5 0,0.5
3D body "Harting_HAR-FLEX_15-15-006-2601-333.STEP": height 4.23, standoff -0.77, extent -1.065,-4.445 9.285,4.445

## Har-Flex 15-15-012-2601 [mm] "Har-Flex Header, 12 Leads, 1.27mm Pitch"
height 4.25
pads (18):
  rrect20% 2.7x1.2 smd: 0(0.185,-5.685) 0(0.185,5.685) 0(5.085,-5.685)
  rrect20% 2.7x1.2 smd paste+0: 0(5.085,5.685)
  rrect20% 0.8x0.8 smd: A1(0.635,3.175) A2(0.635,1.905) A3(0.635,0.635) A4(0.635,-0.635) A5(0.635,-1.905) A6(0.635,-3.175) B1(-0.635,3.175) B2(-0.635,1.905) B3(-0.635,0.635) B4(-0.635,-0.635) B5(-0.635,-1.905) B6(-0.635,-3.175)
  round 1.55 hole 1.55 unplated: MH(2.635,-5.385) MH(2.635,5.385)
Top Overlay:
  lines w0.2: 5.5,-6.606 -1.5,-6.599 -1.5,6.6 ; 5.5,6.6 -1.5,6.6 ; -1.5,6.6 -1.5,6.6
  text "A6" at 1.071,-4.927 h2
  text "B6" at -0.199,-4.858 h2
  text "B1" at -0.199,3.775 h2
  text "A1" at 1.071,3.775 h2
Mechanical 1:
  lines w0.05: 0.635,-5.735 0.635,5.735 ; 0.635,-5.185 -0.965,-5.185 ccw(c-0.965,-5.285) -1.065,-5.285 -1.065,-6.085 ccw(c-0.965,-6.085) -0.965,-6.185 0.235,-6.185 ccw(c0.235,-6.085) 0.335,-6.085 0.335,-5.735 cw(c0.435,-5.735) 0.535,-5.735 ; 0.635,-3.425 0.414,-3.425 ; 0.635,-2.925 0.414,-2.925 ; 0.635,-2.155 0.414,-2.155 ; 0.635,-1.655 0.414,-1.655 ; 0.635,-0.885 0.414,-0.885 ; 0.635,-0.385 0.414,-0.385 ; 0.635,0.385 0.414,0.385 ; 0.635,0.885 0.414,0.885 ; 0.635,1.655 0.414,1.655 ; 0.635,2.155 0.414,2.155 ; 0.635,2.925 0.414,2.925 ; 0.635,3.425 0.414,3.425 ; 0.635,5.185 -0.965,5.185 cw(c-0.965,5.285) -1.065,5.285 -1.065,6.085 cw(c-0.965,6.085) -0.965,6.185 0.235,6.185 cw(c0.235,6.085) 0.335,6.085 0.335,5.735 ccw(c0.435,5.735) 0.535,5.735 ; 0.685,-6.035 0.685,-5.735 ; 0.685,5.735 0.685,6.035 ; 1.04,-6.035 1.04,-6.35 4.23,-6.35 4.23,-6.035 ; 1.04,6.035 1.04,6.35 4.23,6.35 4.23,6.035 ; 1.29,-6.35 1.29,-6.035 ; 1.29,6.035 1.29,6.35 ; 3.98,-6.35 3.98,-6.035 ; 3.98,6.035 3.98,6.35 ; 4.585,-6.035 4.585,-5.735 ; 4.585,5.735 4.585,6.035 ; 4.635,-5.735 4.635,-5.185 9.285,-5.185 9.285,5.185 4.635,5.185 4.635,5.735 ; 6.235,-5.185 cw(c6.235,-5.285) 6.335,-5.285 6.335,-6.085 cw(c6.235,-6.085) 6.235,-6.185 5.035,-6.185 cw(c5.035,-6.085) 4.935,-6.085 4.935,-5.735 ccw(c4.835,-5.735) 4.735,-5.735 ; 6.235,5.185 ccw(c6.235,5.285) 6.335,5.285 6.335,6.085 ccw(c6.235,6.085) 6.235,6.185 5.035,6.185 ccw(c5.035,6.085) 4.935,6.085 4.935,5.735 cw(c4.835,5.735) 4.735,5.735 ; -0.485,-3.425 -0.386,-3.425 ; -0.485,-3.425 -0.485,-2.925 ; -0.485,-3.425 -0.935,-3.425 -0.935,-2.925 -0.485,-2.925 ; -0.485,-2.925 -0.386,-2.925 ; -0.485,-2.155 -0.386,-2.155 ; -0.485,-2.155 -0.485,-1.655 ; -0.485,-2.155 -0.935,-2.155 -0.935,-1.655 -0.485,-1.655 ; -0.485,-1.655 -0.386,-1.655 ; -0.485,-0.885 -0.386,-0.885 ; -0.485,-0.885 -0.485,-0.385 ; -0.485,-0.885 -0.935,-0.885 -0.935,-0.385 -0.485,-0.385 ; -0.485,-0.385 -0.386,-0.385 ; -0.485,0.385 -0.386,0.385 ; -0.485,0.385 -0.485,0.885 ; -0.485,0.385 -0.935,0.385 -0.935,0.885 -0.485,0.885 ; -0.485,0.885 -0.386,0.885 ; -0.485,1.655 -0.386,1.655 ; -0.485,1.655 -0.485,2.155 ; -0.485,1.655 -0.935,1.655 -0.935,2.155 -0.485,2.155 ; -0.485,2.155 -0.386,2.155 ; -0.485,2.925 -0.386,2.925 ; -0.485,2.925 -0.485,3.425 ; -0.485,2.925 -0.935,2.925 -0.935,3.425 -0.485,3.425 ; -0.485,3.425 -0.386,3.425 ; -0.386,-3.425 0.001,-3.425 ; -0.386,-3.425 -0.386,-2.925 ; -0.386,-2.925 0.001,-2.925 ; -0.386,-2.155 -0.386,-1.655 ; -0.386,-2.155 0.001,-2.155 ; -0.386,-1.655 0.001,-1.655 ; -0.386,-0.885 -0.386,-0.385 ; -0.386,-0.885 0.001,-0.885 ; -0.386,-0.385 0.001,-0.385 ; -0.386,0.385 0.001,0.385 ; -0.386,0.385 -0.386,0.885 ; -0.386,0.885 0.001,0.885 ; -0.386,1.655 -0.386,2.155 ; -0.386,1.655 0.001,1.655 ; -0.386,2.155 0.001,2.155 ; -0.386,2.925 -0.386,3.425 ; -0.386,2.925 0.001,2.925 ; -0.386,3.425 0.001,3.425 ; 0.001,-3.425 0.414,-3.425 ; 0.001,-3.425 0.001,-2.925 ; 0.001,-2.925 0.414,-2.925 ; 0.001,-2.155 0.414,-2.155 ; 0.001,-2.155 0.001,-1.655 ; 0.001,-1.655 0.414,-1.655 ; 0.001,-0.885 0.414,-0.885 ; 0.001,-0.885 0.001,-0.385 ; 0.001,-0.385 0.414,-0.385 ; 0.001,0.385 0.414,0.385 ; 0.001,0.385 0.001,0.885 ; 0.001,0.885 0.414,0.885 ; 0.001,1.655 0.414,1.655 ; 0.001,1.655 0.001,2.155 ; 0.001,2.155 0.414,2.155 ; 0.001,2.925 0.414,2.925 ; 0.001,2.925 0.001,3.425 ; 0.001,3.425 0.414,3.425 ; 0.414,-3.425 0.414,-2.925 ; 0.414,-2.155 0.414,-1.655 ; 0.414,-0.885 0.414,-0.385 ; 0.414,0.385 0.414,0.885 ; 0.414,1.655 0.414,2.155 ; 0.414,2.925 0.414,3.425 ; 0.535,-5.735 4.735,-5.735 ; 0.535,-5.735 0.535,-6.035 4.735,-6.035 4.735,-5.735 ; 0.535,5.735 4.735,5.735 ; 0.535,5.735 0.535,6.035 4.735,6.035 4.735,5.735
Mechanical 5:
  lines w0.05: 6.935,-6.35 6.935,6.35
Mechanical 15:
  lines w0.05: -1.725,-6.825 -1.725,6.825 9.4,6.825 9.4,-6.825 -1.725,-6.825
  lines w0.1: -0.5,0 0.5,0 ; 0,-0.5 0,0.5
3D body "Harting_HAR-FLEX_15-15-012-2601-333.STEP": height 4.23, standoff -0.77, extent -1.065,-6.35 9.285,6.35